# EAGLE library part VNH7040 (library 2020-08-18 Motor Board)
VNH7040
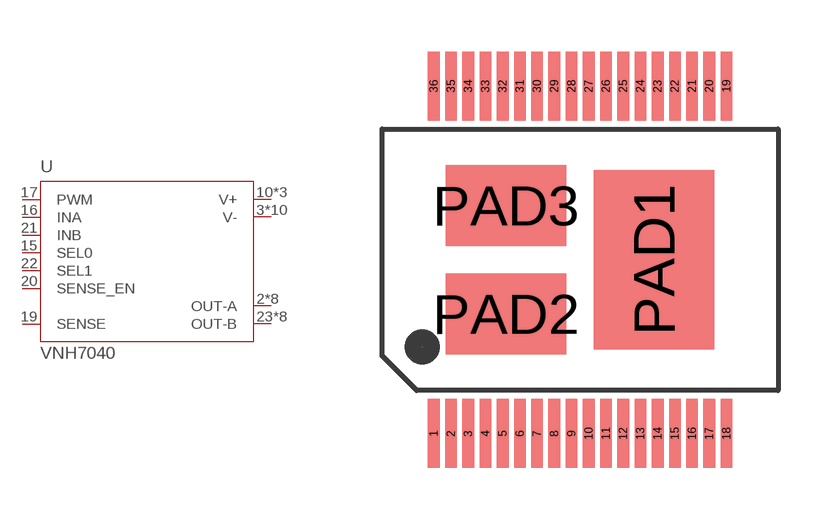
[diagram p1: symbol with the pads of SSO-36-TP; footprint SSO-36-TP]

Designator prefix -

## VNH7040  [SSO-36-TP]
2  OUT-A  pas
3  V-  pas
4  V-  pas
5  V-  pas
6  V-  pas
7  V-  pas
8  OUT-A  pas
9  OUT-A  pas
10  V+  pas
11  OUT-A  pas
12  OUT-A  pas
13  OUT-A  pas
14  OUT-A  pas
15  SEL0  in
16  INA  in
17  PWM  in
19  SENSE  out
20  SENSE_EN  in
21  INB  in
22  SEL1  in
23  OUT-B  pas
24  OUT-B  pas
25  OUT-B  pas
26  OUT-B  pas
27  V+  pas
28  OUT-B  pas
29  OUT-B  pas
30  V-  pas
31  V-  pas
32  V-  pas
33  V-  pas
34  V-  pas
35  OUT-B  pas
PAD1  V+  pas
PAD2  OUT-A  pas
PAD3  OUT-B  pas

## Footprint SSO-36-TP (pad centres in mm)
PIN: 0.34x2.00[mm] BOX: 10.50x12.10[mm] BODY: 10.50x7.60[mm] PAD separation: 0.16[mm] PAD1: 5.20x3.50 [mm] PAD2/3: 2.35x3.50 [mm]
smd 0.34 x 2: 1 -4.25,-5.05; 2 -3.75,-5.05; 3 -3.25,-5.05; 4 -2.75,-5.05; 5 -2.25,-5.05; 6 -1.75,-5.05; 7 -1.25,-5.05; 8 -0.75,-5.05; 9 -0.25,-5.05; 10 0.25,-5.05; 11 0.75,-5.05; 12 1.25,-5.05; 13 1.75,-5.05; 14 2.25,-5.05; 15 2.75,-5.05; 16 3.25,-5.05; 17 3.75,-5.05; 18 4.25,-5.05; 19 4.25,5.05; 20 3.75,5.05; 21 3.25,5.05; 22 2.75,5.05; 23 2.25,5.05; 24 1.75,5.05; 25 1.25,5.05; 26 0.75,5.05; 27 0.25,5.05; 28 -0.25,5.05; 29 -0.75,5.05; 30 -1.25,5.05; 31 -1.75,5.05; 32 -2.25,5.05; 33 -2.75,5.05; 34 -3.25,5.05; 35 -3.75,5.05; 36 -4.25,5.05
smd 3.5 x 5.2: PAD1 2.15,0
smd 3.5 x 2.35: PAD2 -2.15,-1.575; PAD3 -2.15,1.575